# EAGLE library part L298 (library st-microelectronics)
DUAL FULL-BRIDGE DRIVER
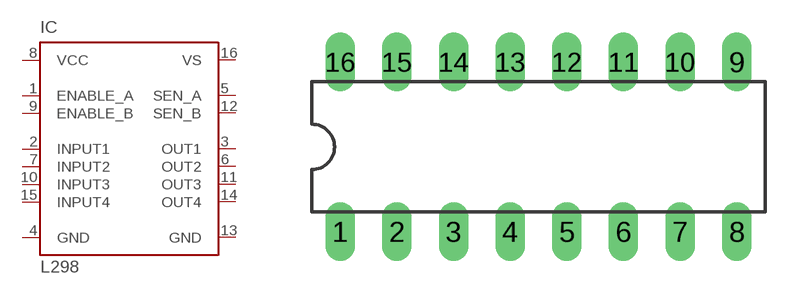
[diagram p1: symbol with the pads of DIL16; footprint DIL16]

Designator prefix IC

## L298  [DIL16]
1  ENABLE_A  in
2  INPUT1  in
3  OUT1  out
4  GND  pwr
5  SEN_A  in
6  OUT2  out
7  INPUT2  in
8  VCC  pwr
9  ENABLE_B  in
10  INPUT3  in
11  OUT3  out
12  SEN_B  in
13  GND  pwr
14  OUT4  out
15  INPUT4  in
16  VS  pwr

## Footprint DIL16 (pad centres in mm)
Dual In Line Package
drill 0.813 long: 1 -8.89,-3.81; 2 -6.35,-3.81; 3 -3.81,-3.81; 4 -1.27,-3.81; 5 1.27,-3.81; 6 3.81,-3.81; 7 6.35,-3.81; 8 8.89,-3.81; 9 8.89,3.81; 10 6.35,3.81; 11 3.81,3.81; 12 1.27,3.81; 13 -1.27,3.81; 14 -3.81,3.81; 15 -6.35,3.81; 16 -8.89,3.81